# EAGLE library part SDA03H1SBD (library SDA03H1SBD)
Switch DIP OFF ON SPST 3 Raised Slide 0.1A 24VDC Gull Wing 1000Cycles 2.54mm SMD Tube
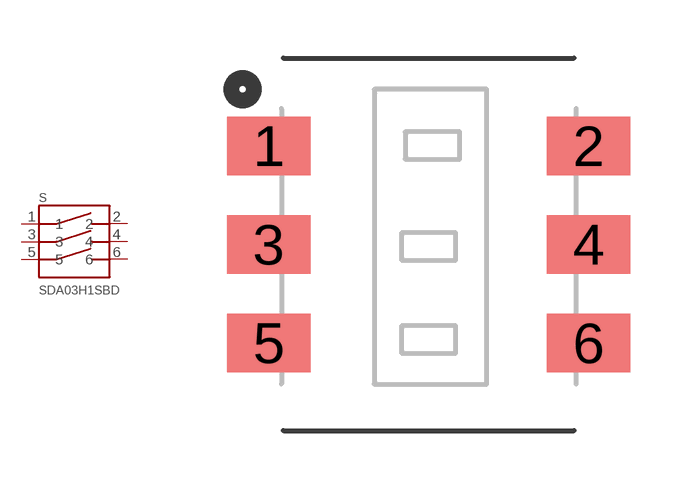
[diagram p0: symbol with the pads of SW_SDA03H1SBD; footprint SW_SDA03H1SBD]

Designator prefix S

## SDA03H1SBD (Availability: Unavailable; Description: Switch DIP OFF ON SPST 3 Raised Slide 0.1A 24VDC Gull Wing 1000Cycles 2.54mm SMD Tube; MF: C&K; MP: SDA03H1SBD; Package: None; Price: None)  [SW_SDA03H1SBD]
1  1  pas
2  2  pas
3  3  pas
4  4  pas
5  5  pas
6  6  pas

## Footprint SW_SDA03H1SBD (pad centres in mm)
smd 2.15 x 1.5: 1 -4.125,2.54; 2 4.125,2.54; 3 -4.125,0; 4 4.125,0; 5 -4.125,-2.54; 6 4.125,-2.54